# Altium schematic symbol library IC_Vishay_SIP32431DR3-T1GE3_eec.SchLib: 1 symbol
Pins are listed as number, name and electrical type; pins without a type are passive.

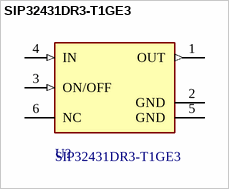
[diagram p0: symbol SIP32431DR3-T1GE3]

## SIP32431DR3-T1GE3
designator U?  (value not drawn)
footprint Vishay_S-42145_0
pins: 1 OUT (out), 2 GND (power), 3 ON/OFF (in), 4 IN (in), 5 GND (power), 6 NC